# EAGLE library part 5692-P (library pedals-tubes)
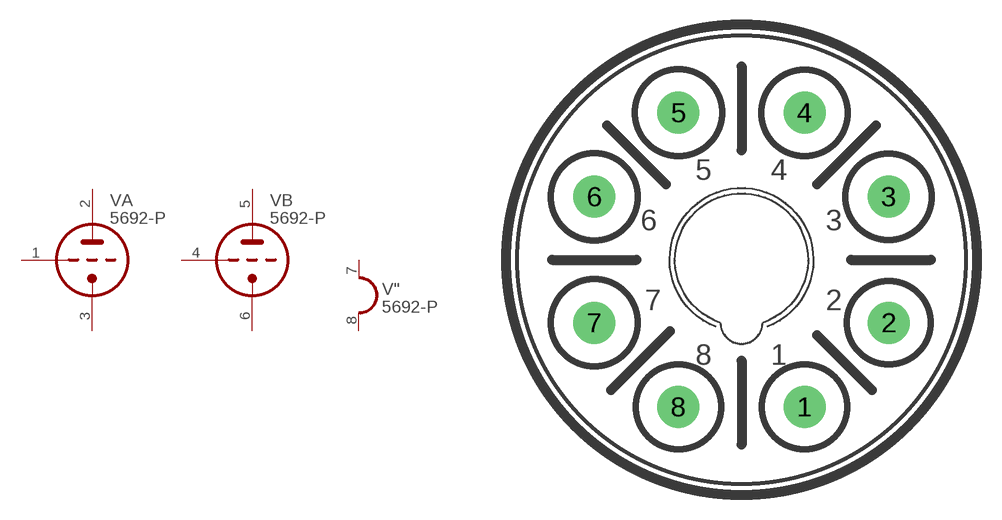
[diagram p77: symbol with the pads of OKTAL; footprint OKTAL]

Designator prefix V; gates A=TRIODE B=TRIODE "=HEATER_1

## 5692-P  [OKTAL]
1  A:TG  pas
2  A:TA  pas
3  A:TK  pas
4  B:TG  pas
5  B:TA  pas
6  B:TK  pas
7  ":H1  pas
8  ":H2  pas

## Footprint OKTAL (pad centres in mm)
drill 1.27 pad 2.54: 1 3.81,-8.89; 2 8.89,-3.81; 3 8.89,3.81; 4 3.81,8.89; 5 -3.81,8.89; 6 -8.89,3.81; 7 -8.89,-3.81; 8 -3.81,-8.89